# Altium schematic symbol library TFCARD.SchLib: 1 symbol
Pins are listed as number, name and electrical type; pins without a type are passive.

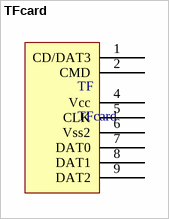
[diagram p0: symbol TFcard]

## TFcard
designator TF
pins: 1 CD/DAT3, 2 CMD, 4 Vcc, 5 CLK, 6 Vss2, 7 DAT0, 8 DAT1, 9 DAT2